# Altium schematic symbol library CMod5_1.SCHLIB: 236 symbols (part 3 of 5)
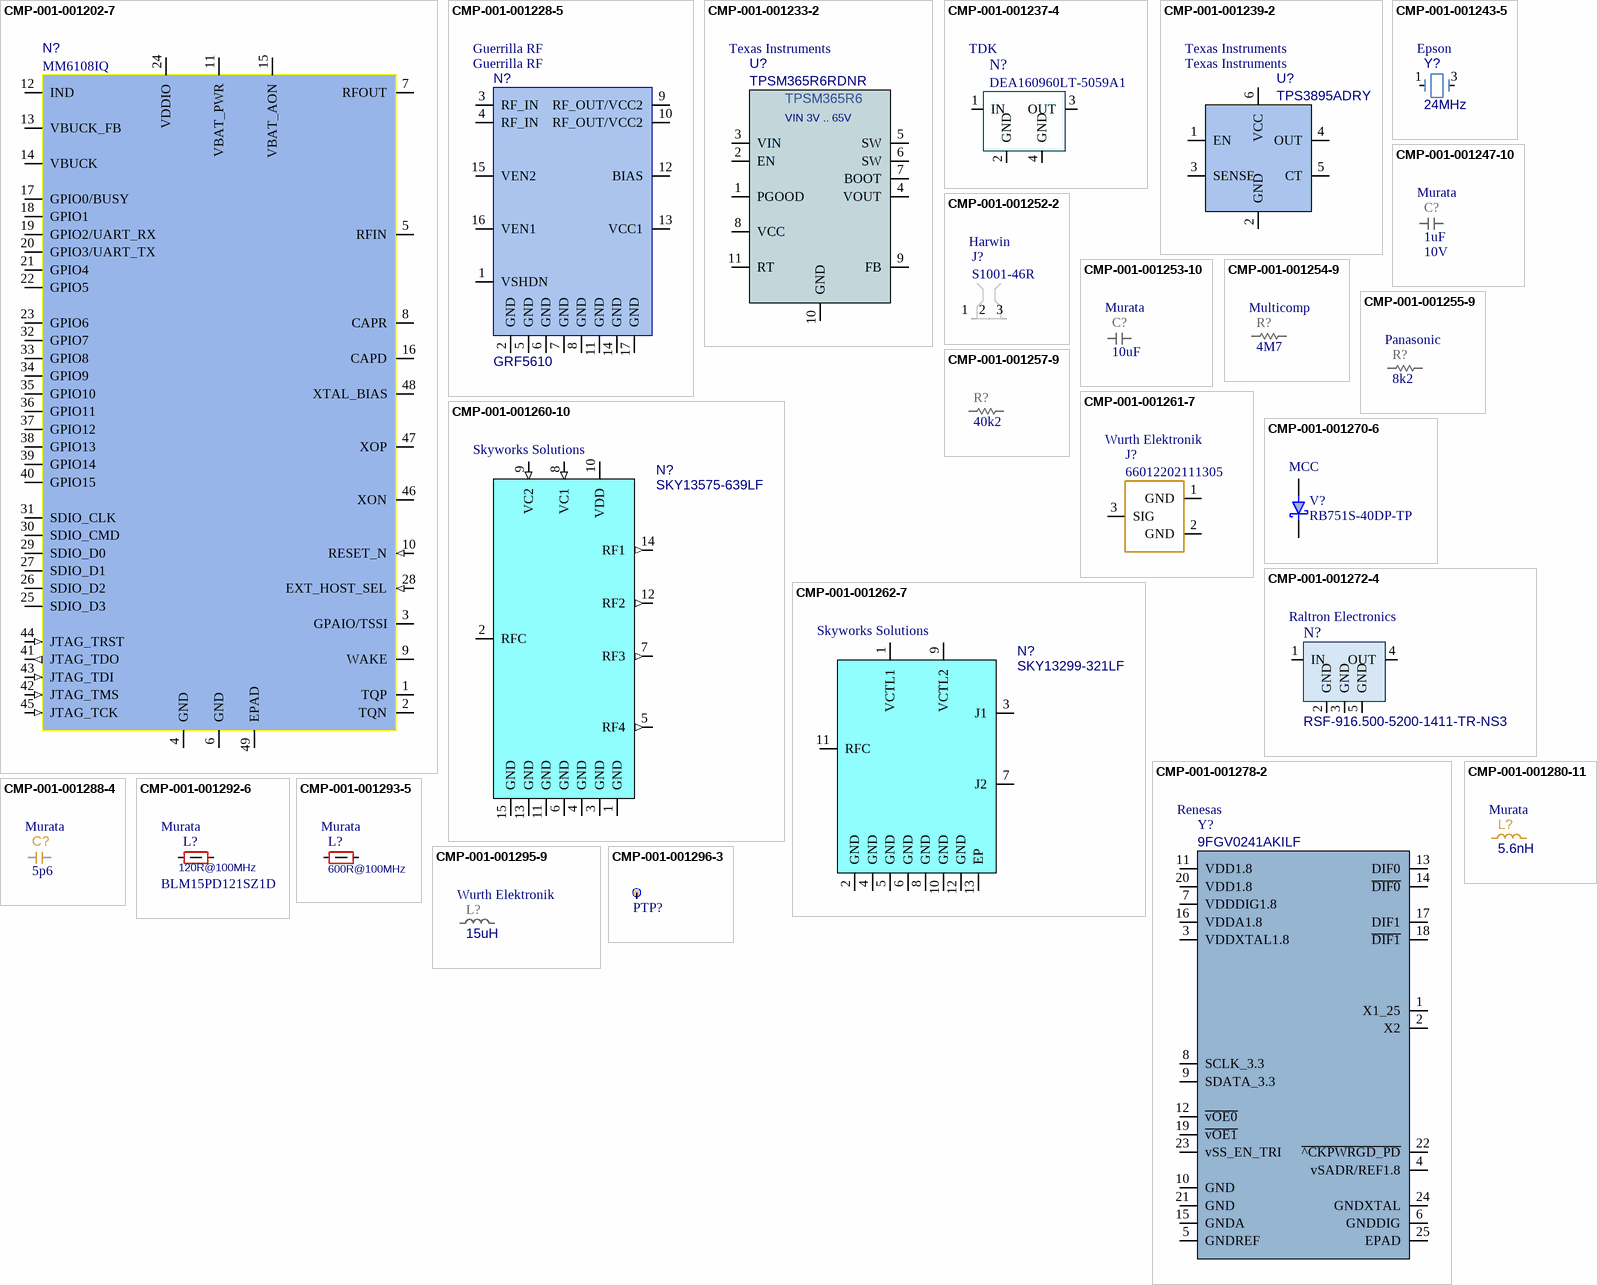
[diagram p14: symbols CMP-001-001202-7 to CMP-001-001296-3]

## CMP-001-001247-10
designator C?, comment value 1uF  Voltage: 10V  Manufacturer: Murata  (hidden comment: CAP_0402_1uF_10V_X7R)
CAP; Part Number: GRM155Z71A105KE01J; Temperature characteristics: X7R; Tolerance: +/-10%; Sort order: 304; Alternative component: Allowed; System: RLC; Package: 0402; Operating temperature range: -55 ... +125 °C; ComponentLink1Description: 1_Datasheet; ComponentLink2Description: 2_Product page; ComponentLink3Description: 3_X-information; ComponentLink4Description: 4_X-information; Creation date: 20240404; ECCN: EAR99; RoHS: RoHS3; Manufacturer Part Number: GRM155Z71A105KE01J; Component Type: Capacitor
footprint CAP_0402_UN1Q (Chip Capacitor 0402)
pins: 1, 2

## CMP-001-001252-2
designator J?, comment S1001-46R  Manufacturer: Harwin
EMC Shielding Clip; Sort order: 101; System: EMECH; Part Number: S1001-46R; Package: Clip; ComponentLink1Description: 1_Datasheet; ComponentLink1URL: https://cdn.harwin.com/pdfs/S1001-46R.pdf; Dimensions WxLxH: 0.75x4.5x0.9; ComponentLink2Description: 2_Product page; ComponentLink2URL: https://www.harwin.com/products/S1001-46R/; ComponentLink3Description: 3_X-information; ComponentLink4Description: 4_X-information; Creation Date: 20240502; Design Item ID: EMC_Shield_Clip_S1001-46R; Manufacturer Part Number: S1001-46R; Component Type: Shield
footprint Shield_Clip_S1001-46R_Harwin (EMC Shielding Clip)
pins: 1, 2, 3

## CMP-001-001253-10
designator C?, comment value 10uF  Manufacturer: Murata  (hidden comment: CAP_0603_10u_10V_X7R)
CAP; Part Number: GRM188Z71A106KA73D; Temperature characteristics: X7R; Voltage: 10V; Tolerance: +/-10%; Sort order: 306; Alternative component: Allowed; System: RLC; Package: 0603; Operating temperature range: -55 ... +125°C; ComponentLink1Description: 1_Datasheet; ComponentLink2Description: 2_Product page; ComponentLink3Description: 3_X-information; ComponentLink4Description: 4_X-information; Creation date: 20240404; ECCN: EAR99; RoHS: RoHS3; Manufacturer Part Number: GRM188Z71A106KA73D; Component Type: Capacitor
footprint CAP_0603_UN1Q (Chip Capacitor 0603)
pins: 1, 2

## CMP-001-001254-9
designator R?, comment value 4M7  Manufacturer: Multicomp  (hidden comment: RES_0201_4M7)
RES; Part Number: MCRE000254; Manufacturer: MULTICOMP PRO; Tolerance: 1%; Power Rating: 1/20W; Sort order: 322; Alternative component: Allowed; System: RLC; Package: 0201; ClassName: SMALL; ComponentLink1Description: 1_Datasheet; ComponentLink2Description: 2_Product page; ComponentLink3Description: 3_X-information; ComponentLink4Description: 4_X-information; Creation date: 20240404; Manufacturer Part Number: MCRE000254; Component Type: Resistor
footprint RES_0201_UN1Q (Chip Resistor, 0.6x0.3mm)
pins: 1, 2

## CMP-001-001255-9
designator R?, comment value 8k2  Manufacturer: Panasonic  (hidden comment: RES_0201_8k2)
RES; Part Number: ERJ1GNF8201C; Manufacturer: Panasonic Electronic Components; Tolerance: 1%; Power Rating: 1/20W; Sort order: 322; Alternative component: Allowed; System: RLC; Package: 0201; ClassName: SMALL; ComponentLink1Description: 1_Datasheet; ComponentLink2Description: 2_Product page; ComponentLink3Description: 3_X-information; ComponentLink4Description: 4_X-information; Creation date: 20240404; Manufacturer Part Number: ERJ1GNF8201C; Component Type: Resistor
footprint RES_0201_UN1Q (Chip Resistor, 0.6x0.3mm)
pins: 1, 2

## CMP-001-001257-9
designator R?, comment value 40k2  (hidden comment: RES_0201_40k2)
RES; Part Number: RC0201FR-0740K2L; Manufacturer: YAGEO; Power Rating: 1/20W; Sort order: 322; Tolerance: 1%; Alternative component: Allowed; System: RLC; Package: 0201; Creation date: 20240404; ComponentLink3Description: 3_X-information; ClassName: SMALL; ComponentLink1Description: 1_Datasheet; ComponentLink2Description: 2_Product page; ComponentLink4Description: 4_X-information; Component Type: Resistor
footprint RES_0201_UN1Q (Chip Resistor, 0.6x0.3mm)
pins: 1, 2

## CMP-001-001260-10
designator N?, comment Manufacturer: Skyworks Solutions  (hidden comment: SKY13575-639LF)
Dual-Band Matched SP4T Wi-Fi Switch; Manufacturer: Skyworks; Sort order: 711; System: RF; Part Number: SKY13575-639LF; ComponentLink1URL: https://www.skyworksinc.com/-/media/SkyWorks/Documents/Products/2201-2300/SKY13575_639LF_203270D.pdf; ClassName: BIG; ComponentLink4Description: 4_X-information; ComponentLink2URL: https://www.skyworksinc.com/en/Products/switches/SKY13575-639LF; Dimensions WxLxH: 1.6 x 1.6 x 0.5; Operating temperature range: -40C ... +90C; ECCN: 5A991.g; Creation Date: 20240626; ComponentLink2Description: 2_Product page; Package: QFN14; ComponentLink3Description: 3_X-information; ComponentLink1Description: 1_Datasheet; Manufacturer Part Number: SKY13575-639LF; Component Type: RF IC
footprint SKY13575-639LF-Footprint (QFN14 SKYWORKS)
pins: 1 GND (power), 2 RFC, 3 GND (power), 4 GND (power), 5 RF4 (out), 6 GND (power), 7 RF3 (out), 8 VC1 (in), 9 VC2 (in), 10 VDD (power), 11 GND (power), 12 RF2 (out), 13 GND (power), 14 RF1 (out), 15 GND (power)

## CMP-001-001261-7
designator J?, comment Part Number: 66012202111305  Manufacturer: Wurth Elektronik  (hidden comment: MMCX_WR_66012202111305_Shaved)
WR-MMCX Connector, SMT, Card edge; Sort order: 111; HasBeenBuilt: False; ComponentLink4Description: 4_X-information; ComponentLink2Description: 2_Product page; Design Item ID: MMCX_WR_66012202111305_Shaved; ComponentLink1Description: 1_Datasheet; ClassName: BIG; System: Connector; ComponentLink1URL: https://www.we-online.com/en/components/products/WR-MMCX_66012202111305?sq=66012202111305#66012202111305; Source: UUDET_KOMPONENTIT.SchLib; ComponentLink3Description: 3_X-information; Creation date: 20240626; Manufacturer Part Number: 66012202111305; Component Type: Connector
footprint MMCX_WR_66012202111305_Shaved (MMCX PCB End Launch Jack)
pins: 1 GND (power), 2 GND (power), 3 SIG

## CMP-001-001262-7
designator N?, comment Manufacturer: Skyworks Solutions  (hidden comment: SKY13299-321LF)
20 MHz-5 GHz, 7 W SPDT Switch; Manufacturer: Skyworks; System: RF; Sort order: 711; ComponentLink2URL: https://www.skyworksinc.com/en/Products/switches/SKY13299-321LF; Operating temperature range: -40C ... +85C; ComponentLink1URL: https://www.skyworksinc.com/-/media/SkyWorks/Documents/Products/101-200/SKY13299_321LF_200621J.pdf; ComponentLink4Description: 4_X-information; ComponentLink3Description: 3_X-information; Package: QFN12L; ComponentLink2Description: 2_Product page; ComponentLink1Description: 1_Datasheet; Part Number: SKY13299-321LF; Creation Date: 20260626; Dimensions WxLxH: 3 x 3 x 0.8; ClassName: BIG; Manufacturer Part Number: SKY13299-321LF; Component Type: RF IC
footprint SKY13299-321LF-Footprint (QFN12, 3 x 3 mm Skyworks)
pins: 1 VCTL1, 2 GND, 3 J1, 4 GND, 5 GND, 6 GND, 7 J2, 8 GND, 9 VCTL2, 10 GND, 11 RFC, 12 GND, 13 EP

## CMP-001-001270-6
designator V?, comment Manufacturer: MCC  (hidden comment: RB751S-40DP-TP)
Schottky diode 30mA 40V; Manufacturer: Micro Commercial Components MCC; Sort order: 421; Value: 1mA@370mV; System: Discrete; Package: 0201; Part Number: RB751S-40DP-TP; Operating temperature range: -55...125C; ComponentLink1Description: 1_Datasheet; ComponentLink1URL: https://www.mccsemi.com/pdf/Products/RB751S-40DP(0201).pdf; Dimensions WxLxH: 0.67x0.37x0.34; ComponentLink2Description: 2_Product page; ComponentLink3Description: 3_X-information; ComponentLink4Description: 4_X-information; Creation date: 20240704; ClassName: SMALL; Manufacturer Part Number: RB751S-40DP-TP; Component Type: Diode
footprint Schottky_0201_MCC (Schottkydiode, 0201, Micro Commercial Components)
pins: 1 CATHODE, 2 ANODE

## CMP-001-001272-4
designator N?, comment Manufacturer: Raltron Electronics  (hidden comment: RSF-916.500-5200-1411-TR-NS3)
916.5 MHz SAW FILTER, IL 2.8; Manufacturer: RALTRON; System: RF; Sort order: 701; Part Number: RSF-916.500-5200-1411-TR-NS3; ComponentLink2URL: https://www.raltron.com/saw-filters-by-frequency/?3186_device=laptop&3186_paged=4; Dimensions WxLxH: 1.4 x 1.1 x  0.6mm; ComponentLink2Description: 2_Product page; ComponentLink1Description: 1_Datasheet; ComponentLink4Description: 4_X-information; ComponentLink3Description: 3_X-information; Package: 5-SMD; ComponentLink1URL: https://www.raltron.com/webproducts/specs/SAW_FILTER/RSF-916.500-5200-1411-TR-NS3.pdf; Operating temperature range: -40 ... +95C; Creation date: 20240711; Manufacturer Part Number: RSF-916.500-5200-1411-TR-NS3; Component Type: RF Discrete
footprint RSF-916.500-5200-1411-TR-NS3
pins: 1 IN "50 ohm input", 2 GND, 3 GND, 4 OUT "50 ohm output", 5 GND

## CMP-001-001278-2
designator Y?, comment Manufacturer: Renesas  (hidden comment: 9FGV0241AKILF)
PCIe Clock Generator, 2-output PCIE GEN 1–4 CLOCK GENERATOR; Manufacturer: Renesas Electronics Corporation; Sort order: 455; System: IC; ECCN: EAR99; ComponentLink3Description: 3_X-information; ComponentLink4Description: 4_X-information; Operating temperature range: -40 .... +85 °C; ComponentLink1URL: https://www.renesas.com/us/en/document/dst/9fgv0241-datasheet; Creation date: 20240816; Part Number: 9FGV0241AKILF; Dimensions WxLxH: 4.0x4.0x0.9mm; ComponentLink1Description: 1_Datasheet; Design Item ID: 9FGV0241AKILF; Package: VFQFPN-24; ComponentLink2Description: 2_Product page; ClassName: BIG; Manufacturer Part Number: 9FGV0241AKILF; Component Type: Timing
footprint VFQFPN-24_9FGV0241AKLF (VFQFPN-24)
pins: 1 X1_25, 2 X2, 3 VDDXTAL1.8, 4 vSADR/REF1.8, 5 GNDREF, 6 GNDDIG, 7 VDDDIG1.8, 8 SCLK_3.3, 9 SDATA_3.3, 10 GND, 11 VDD1.8, 12 ~{vOE0}, 13 DIF0, 14 ~{DIF0}, 15 GNDA, 16 VDDA1.8, 17 DIF1, 18 ~{DIF1}, 19 ~{vOE1}, 20 VDD1.8, 21 GND, 22 ~{^CKPWRGD_PD}, 23 vSS_EN_TRI, 24 GNDXTAL, 25 EPAD

## CMP-001-001280-11
designator L?, comment value 5.6nH  Manufacturer: Murata  (hidden comment: IND_0402_5n6_RF_MATCHING)
IND_RF_MATCHING, WIREWOUND; Part Number: LQW15AN5N6B8Z#; Manufacturer Part Number: LQW15AN5N6B8ZD; Tolerance: +/- 5%; HasBeenBuilt: TBD; Sort order: 206; System: RLC; Remark: RF matching, use part number; ComponentLink2Description: 2_Product page; ComponentLink1Description: 1_Datasheet; Operating temperature range: -55 ... +125C; Creation date: 20240318; Source: UUDET_KOMPONENTIT.SchLib; ComponentLink1URL: https://www.mouser.fi/datasheet/2/281/1/JELF243A_9138-1699493.pdf; ComponentLink3Description: 3_X-information; Package: 0402; ClassName: SMALL; ComponentLink4Description: 4_X-information; RoHS: RoHS3; Component Type: Inductor
footprint IND_0402_UN1Q (Chip Resistor, 1.0x0.5mm)
pins: 1, 2

## CMP-001-001288-4
designator C?, comment value 5p6  Manufacturer: Murata  (hidden comment: CAP_0402_5p6_RF_MATCHING)
CAP_RF_MATCHING; Part Number: GJM1555C1H5R6WB01; Manufacturer Part Number: GJM1555C1H5R6WB01D; Temperature characteristics: C0G; Sort order: 202; HasBeenBuilt: TBD; Tolerance: +/-0.05%; System: RLC; Voltage: 50V; Remark: RF matching, use part number; ComponentLink1Description: 1_Datasheet; Creation date: 20240903; ComponentLink3Description: 3_X-information; Package: 0402; Source: UUDET_KOMPONENTIT.SchLib; ComponentLink1URL: https://www.murata.com/en-us/products/productdetail?partno=GJM1555C1H5R6WB01%23; ClassName: SMALL; ComponentLink2Description: 2_Product page; ComponentLink4Description: 4_X-information; Component Type: Capacitor
footprint CAP_0402_UN1Q (Chip Capacitor 0402)
pins: 1, 2

## CMP-001-001292-6
designator L?, comment value 120R@100MHz  Part Number: BLM15PD121SZ1D  Manufacturer: Murata  (hidden comment: FERRITE_0402_BLM15PD_120R)
FERRITE; HasBeenBuilt: Saluki3X; Sort order: 364; Tolerance: 25%; System: Discrete; Current: 1.3A; Source: Discrete_UN1Q.SchLib; Creation date: 20240904; Package: 0402; ComponentLink3Description: 3_X-information; ECCN: EAR99; Operating temperature range: -55 ... +125C; ComponentLink2Description: 2_Product page; ComponentLink2URL: https://www.murata.com/en-global/search/productsearch?cate=cgsubChipFerriBead&partno=BLM15PD121&realtime=1; ComponentLink4Description: 4_X-information; ComponentLink1Description: 1_Datasheet; ComponentLink1URL: https://www.mouser.fi/datasheet/2/281/QNFA9118-1915745.pdf; RoHS: RoHS3; Manufacturer Part Number: BLM15PD121SZ1D; Component Type: Ferrite
footprint IND_0402_UN1Q (Chip Resistor, 1.0x0.5mm)
pins: 1, 2

## CMP-001-001293-5
designator L?, comment value 600R@100MHz  Manufacturer: Murata  (hidden comment: FERRITE_0402_BLM15PX_600R)
FERRITE; Part Number: BLM15PX601SZ1#; Manufacturer Part Number: BLM15PX601SZ1D; System: Discrete; Tolerance: 25%; Sort order: 364; HasBeenBuilt: TBD; Current: 0.9A; ComponentLink1URL: https://www.mouser.fi/datasheet/2/281/QNFA9118-1915745.pdf; Package: 0402; Creation date: 20240904; ComponentLink2Description: 2_Product page; Source: Discrete_UN1Q.SchLib; ComponentLink4Description: 4_X-information; ComponentLink1Description: 1_Datasheet; ComponentLink3Description: 3_X-information; Operating temperature range: -55 ... +125C; Component Type: Ferrite
footprint IND_0402_UN1Q (Chip Resistor, 1.0x0.5mm)
pins: 1, 2

## CMP-001-001295-9
designator L?, comment value 15uH  Manufacturer: Wurth Elektronik  (hidden comment: IND_1008_15uH_Wurth)
15uH 0.47A 820mohm; Manufacturer: Wurth; Part Number: 74404024150; Sort order: 348; System: RLC; HasBeenBuilt: TBD; ComponentLink1Description: 1_Datasheet; ComponentLink3Description: 3_X-information; ComponentLink2Description: 2_Product page; Package: 1008; Dimensions WxLxH: 2.0x2.5x1.2; ComponentLink1URL: https://www.we-online.com/components/products/datasheet/74404024150.pdf; ComponentLink2URL: https://www.digikey.com/en/products/detail/w%C3%BCrth-elektronik/74404024150/4865380; Creation date: 20240904; ComponentLink4Description: 4_X-information; Current: 0.47A; Manufacturer Part Number: 74404024150; Component Type: Inductor
footprint IND_1008_UN1Q_Wurth (Chip Inductor, 1008)
pins: 1, 2

## CMP-001-001296-3
designator PTP?, comment PTP_0.4mm  (value not drawn)  (no BOM)
Production Testpoint 0.4mm. Flying probe. Use 1mm pitch.; Part Number: PTP 0.4mm; ComponentLink4Description: 4_X-information; ComponentLink1Description: 1_Datasheet; Sort order: -; ClassName: SMALL; System: Test Point; HasBeenBuilt: -; Design Item ID: PTP_0.4mm; ComponentLink3Description: 3_X-information; Creation date: 20240909; ComponentLink2Description: 2_Product page; Component Type: Test Point
footprint PTP_0.4mm (ProductionTest Point, Circular, 0.4mm. Flying probe. Use 1mm pitch.)
pins: 1 TP

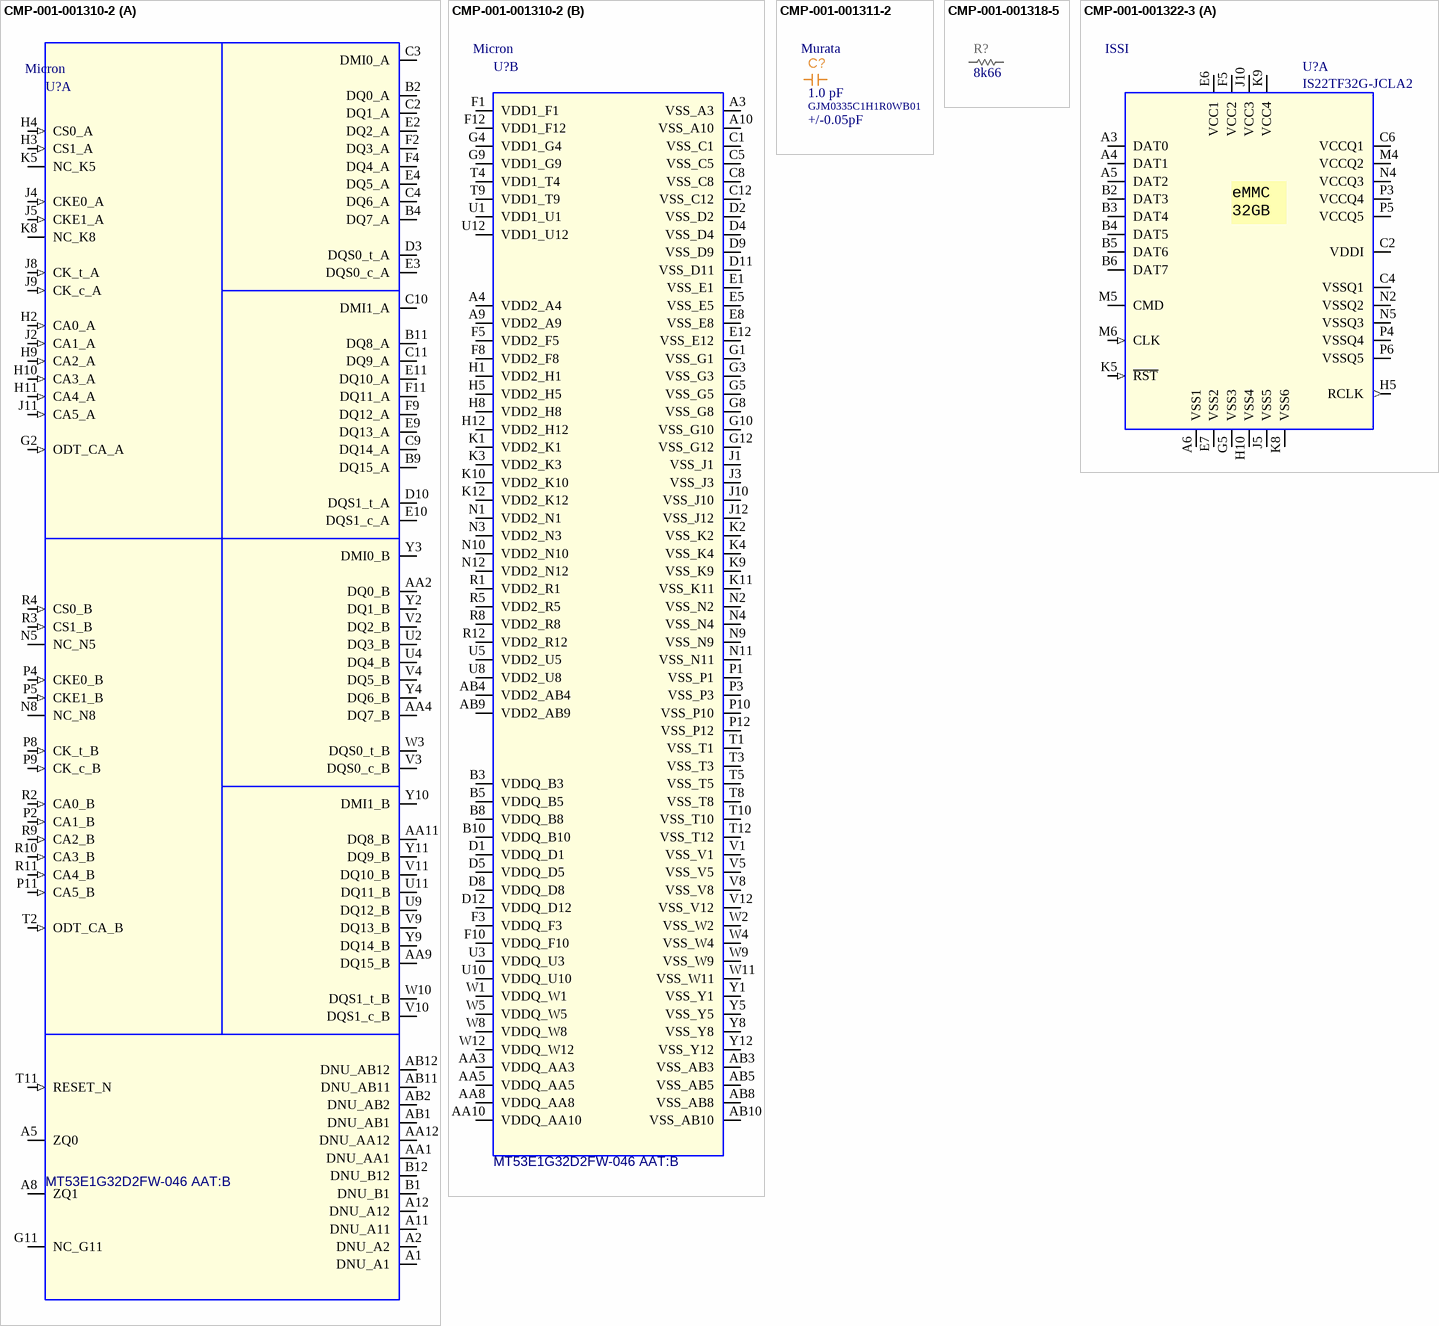
[diagram p7: symbols CMP-001-001310-2 to CMP-001-001322-3]

## CMP-001-001310-2
designator U?, comment Manufacturer: Micron  (hidden comment: MT53E1G32D2FW-046 AAT:B)
MEM LPDDR4 SDRAM 2133MHz 4GB 1Gx32b 1.1V TFBGA200; Sort order: 511; System: IC; ComponentLink1Description: 1_Datasheet; ComponentLink1URL: https://www.micron.com/products/memory/dram-components/lpddr4/part-catalog/part-detail/mt53e1g32d2fw-046-aat-b; ComponentLink2Description: 2_Product page; ComponentLink3Description: 3_X-information; ComponentLink4Description: 4_X-information; Creation Date: 20240919; Dimensions WxLxH: 10x14.5x1.2mm; Operating temperature range: -40 .... +105 °C; Package: TFBGA-200; Part Number: MT53E1G32D2FW-046 AAT:B; ClassName: BIG; Design Item ID: MT53E1G32D2FW-046 AAT:B; Manufacturer Part Number: MT53E1G32D2FW-046 AAT:B; Component Type: Memory
footprint BGA200C65P12X22_1000X1450X114 (BGA200)
part A pins: A1 DNU_A1, A2 DNU_A2, A5 ZQ0, A8 ZQ1, A11 DNU_A11, A12 DNU_A12, AA1 DNU_AA1, AA2 DQ0_B (io), AA4 DQ7_B (io), AA9 DQ15_B (io), AA11 DQ8_B (io), AA12 DNU_AA12, AB1 DNU_AB1, AB2 DNU_AB2, AB11 DNU_AB11, AB12 DNU_AB12, B1 DNU_B1, B2 DQ0_A (io), B4 DQ7_A (io), B9 DQ15_A (io), B11 DQ8_A (io), B12 DNU_B12, C2 DQ1_A (io), C3 DMI0_A (io), C4 DQ6_A (io), C9 DQ14_A (io), C10 DMI1_A (io), C11 DQ9_A (io), D3 DQS0_t_A (io), D10 DQS1_t_A (io), E2 DQ2_A (io), E3 DQS0_c_A (io), E4 DQ5_A (io), E9 DQ13_A (io), E10 DQS1_c_A (io), E11 DQ10_A (io), F2 DQ3_A (io), F4 DQ4_A (io), F9 DQ12_A (io), F11 DQ11_A (io), G2 ODT_CA_A (in), G11 NC_G11, H2 CA0_A (in), H3 CS1_A (in), H4 CS0_A (in), H9 CA2_A (in), H10 CA3_A (in), H11 CA4_A (in), J2 CA1_A (in), J4 CKE0_A (in), J5 CKE1_A (in), J8 CK_t_A (in), J9 CK_c_A (in), J11 CA5_A (in), K5 NC_K5, K8 NC_K8, N5 NC_N5, N8 NC_N8, P2 CA1_B (in), P4 CKE0_B (in), P5 CKE1_B (in), P8 CK_t_B (in), P9 CK_c_B (in), P11 CA5_B (in), R2 CA0_B (in), R3 CS1_B (in), R4 CS0_B (in), R9 CA2_B (in), R10 CA3_B (in), R11 CA4_B (in), T2 ODT_CA_B (in), T11 RESET_N (in), U2 DQ3_B (io), U4 DQ4_B (io), U9 DQ12_B (io), U11 DQ11_B (io), V2 DQ2_B (io), V3 DQS0_c_B (io), V4 DQ5_B (io), V9 DQ13_B (io), V10 DQS1_c_B (io), V11 DQ10_B (io), W3 DQS0_t_B (io), W10 DQS1_t_B (io), Y2 DQ1_B (io), Y3 DMI0_B (io), Y4 DQ6_B (io), Y9 DQ14_B (io), Y10 DMI1_B (io), Y11 DQ9_B (io)
part B pins: A3 VSS_A3 (power), A4 VDD2_A4 (power), A9 VDD2_A9 (power), A10 VSS_A10 (power), AA3 VDDQ_AA3 (power), AA5 VDDQ_AA5 (power), AA8 VDDQ_AA8 (power), AA10 VDDQ_AA10 (power), AB3 VSS_AB3 (power), AB4 VDD2_AB4 (power), AB5 VSS_AB5 (power), AB8 VSS_AB8 (power), AB9 VDD2_AB9 (power), AB10 VSS_AB10 (power), B3 VDDQ_B3 (power), B5 VDDQ_B5 (power), B8 VDDQ_B8 (power), B10 VDDQ_B10 (power), C1 VSS_C1 (power), C5 VSS_C5 (power), C8 VSS_C8 (power), C12 VSS_C12 (power), D1 VDDQ_D1 (power), D2 VSS_D2 (power), D4 VSS_D4 (power), D5 VDDQ_D5 (power), D8 VDDQ_D8 (power), D9 VSS_D9 (power), D11 VSS_D11 (power), D12 VDDQ_D12 (power), E1 VSS_E1 (power), E5 VSS_E5 (power), E8 VSS_E8 (power), E12 VSS_E12 (power), F1 VDD1_F1 (power), F3 VDDQ_F3 (power), F5 VDD2_F5 (power), F8 VDD2_F8 (power), F10 VDDQ_F10 (power), F12 VDD1_F12 (power), G1 VSS_G1 (power), G3 VSS_G3 (power), G4 VDD1_G4 (power), G5 VSS_G5 (power), G8 VSS_G8 (power), G9 VDD1_G9 (power), G10 VSS_G10 (power), G12 VSS_G12 (power), H1 VDD2_H1 (power), H5 VDD2_H5 (power), H8 VDD2_H8 (power), H12 VDD2_H12 (power), J1 VSS_J1 (power), J3 VSS_J3 (power), J10 VSS_J10 (power), J12 VSS_J12 (power), K1 VDD2_K1 (power), K2 VSS_K2 (power), K3 VDD2_K3 (power), K4 VSS_K4 (power), K9 VSS_K9 (power), K10 VDD2_K10 (power), K11 VSS_K11 (power), K12 VDD2_K12 (power), N1 VDD2_N1 (power), N2 VSS_N2 (power), N3 VDD2_N3 (power), N4 VSS_N4 (power), N9 VSS_N9 (power), N10 VDD2_N10 (power), N11 VSS_N11 (power), N12 VDD2_N12 (power), P1 VSS_P1 (power), P3 VSS_P3 (power), P10 VSS_P10 (power), P12 VSS_P12 (power), R1 VDD2_R1 (power), R5 VDD2_R5 (power), R8 VDD2_R8 (power), R12 VDD2_R12 (power), T1 VSS_T1 (power), T3 VSS_T3 (power), T4 VDD1_T4 (power), T5 VSS_T5 (power), T8 VSS_T8 (power), T9 VDD1_T9 (power), T10 VSS_T10 (power), T12 VSS_T12 (power), U1 VDD1_U1 (power), U3 VDDQ_U3 (power), U5 VDD2_U5 (power), U8 VDD2_U8 (power), U10 VDDQ_U10 (power), U12 VDD1_U12 (power), V1 VSS_V1 (power), V5 VSS_V5 (power), V8 VSS_V8 (power), V12 VSS_V12 (power), W1 VDDQ_W1 (power), W2 VSS_W2 (power), W4 VSS_W4 (power), W5 VDDQ_W5 (power), W8 VDDQ_W8 (power), W9 VSS_W9 (power), W11 VSS_W11 (power), W12 VDDQ_W12 (power), Y1 VSS_Y1 (power), Y5 VSS_Y5 (power), Y8 VSS_Y8 (power), Y12 VSS_Y12 (power)

## CMP-001-001311-2
designator C?, comment value 1.0 pF  Part Number: GJM0335C1H1R0WB01  Tolerance: +/-0.05pF  Manufacturer: Murata  (hidden comment: CAP_0201_1p0_GJM_RF_MATCHING)
CAP_RF_MATCHING; Manufacturer Part Number: GJM0335C1H1R0WB01J; HasBeenBuilt: TBD; Sort order: 202; Remark: RF matching, use part number; Temperature characteristics: C0G; System: RLC; Voltage: 50V; ComponentLink3Description: 3_X-information; ComponentLink1URL: https://www.murata.com/en-global/products/productdetail?partno=GJM0335C1H1R0WB01%23; Creation date: 20240917; Source: RLC_UN1Q.SchLib; ECCN: EAR99; ComponentLink1Description: 1_Datasheet; Package: 0201; ComponentLink2Description: 2_Product page; ComponentLink4Description: 4_X-information; Operating temperature range: -55 ... +125C; ClassName: SMALL; RoHS: RoHS 2011/65/EU amended by 2015/863 Compliant; Component Type: Capacitor
footprint CAP_0201_UN1Q (Chip Capacitor 0201)
pins: 1, 2

## CMP-001-001318-5
designator R?, comment value 8k66  (hidden comment: RES_0201_8k66)
RES; Part Number: RC0201FR-078K66L; Manufacturer: Yageo; Tolerance: 1%; Power Rating: 1/20W; Sort order: 322; Alternative component: Allowed; System: RLC; Package: 0201; ComponentLink1Description: 1_Datasheet; ComponentLink2Description: 2_Product page; ComponentLink3Description: 3_X-information; ComponentLink4Description: 4_X-information; Creation date: 20240024; ClassName: SMALL; Component Type: Resistor
footprint RES_0201_UN1Q (Chip Resistor, 0.6x0.3mm)
pins: 1, 2

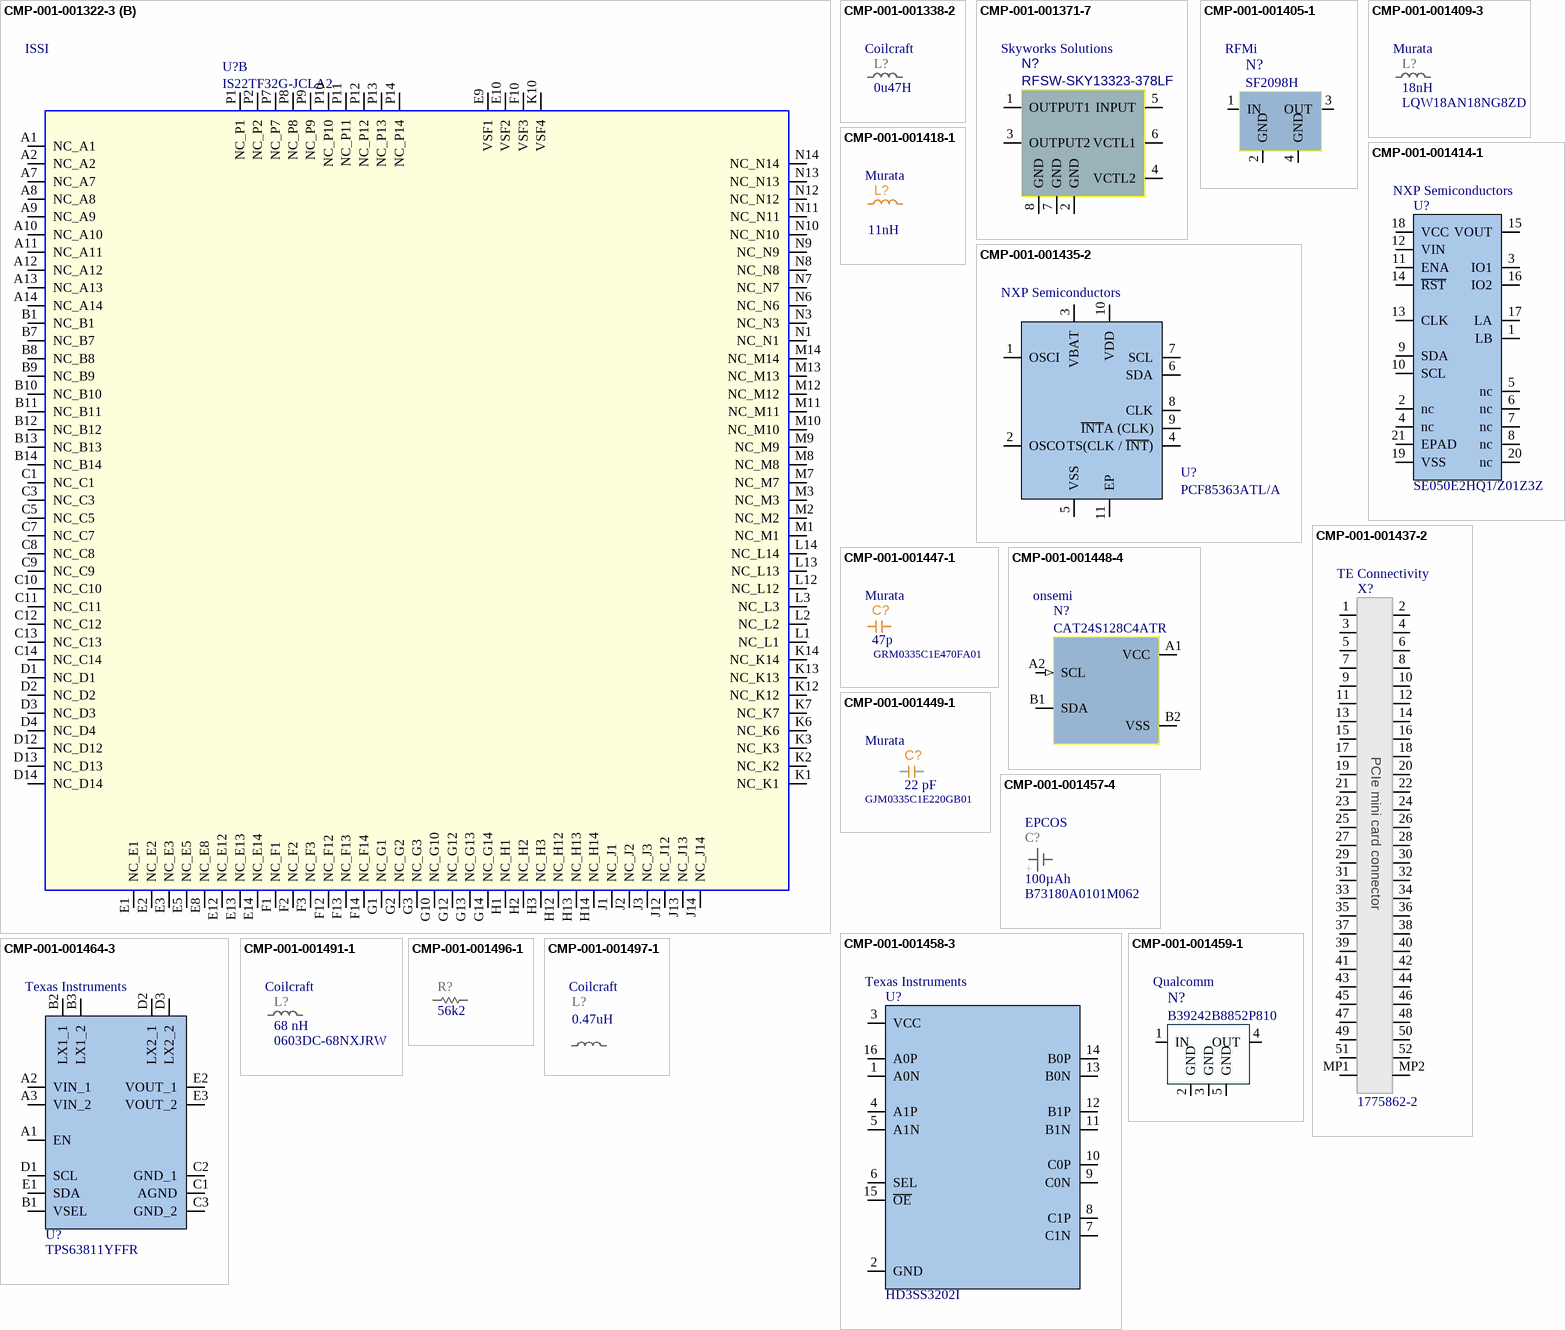
[diagram p8: symbols CMP-001-001322-3 to CMP-001-001497-1]

## CMP-001-001322-3
designator U?, comment Manufacturer: ISSI  (hidden comment: IS22TF32G-JCLA2)
MEM NAND FLASH 32GB eMMC 5.1 HS400 2.7-3.6V, 1.8V VCCQ, FBGA153; Sort order: 511; System: IC; ComponentLink1Description: 1_Datasheet; ComponentLink1URL: https://www.issi.com/WW/pdf/21-22TF16G-32G-64G-128G.pdf; ComponentLink2Description: 2_Product page; ComponentLink3Description: 3_X-information; ComponentLink4Description: 4_X-information; Creation Date: 20240919; Dimensions WxLxH: 11.5 x 13 x 1 mm; Manufacturer: Issi; Operating temperature range: -40 .... +105 °C; Package: TFBGA-153; Part Number: IS22TF32G-JCLA2; Design Item ID: IS22TF32G-JCLA2; Manufacturer Part Number: IS22TF32G-JCLA2; Component Type: Memory
footprint BGA153C50P14X14_1150X1300X100
part A pins: A3 DAT0 (io), A4 DAT1 (io), A5 DAT2 (io), A6 VSS1 (power), B2 DAT3 (io), B3 DAT4 (io), B4 DAT5 (io), B5 DAT6 (io), B6 DAT7 (io), C2 VDDI (power), C4 VSSQ1 (power), C6 VCCQ1 (power), E6 VCC1 (power), E7 VSS2 (power), F5 VCC2 (power), G5 VSS3 (power), H5 RCLK (out), H10 VSS4 (power), J5 VSS5 (power), J10 VCC3 (power), K5 ~{RST} (in), K8 VSS6 (power), K9 VCC4 (power), M4 VCCQ2 (power), M5 CMD (io), M6 CLK (in), N2 VSSQ2 (power), N4 VCCQ3 (power), N5 VSSQ3 (power), P3 VCCQ4 (power), P4 VSSQ4 (power), P5 VCCQ5 (power), P6 VSSQ5 (power)
part B pins: A1 NC_A1, A2 NC_A2, A7 NC_A7, A8 NC_A8, A9 NC_A9, A10 NC_A10, A11 NC_A11, A12 NC_A12, A13 NC_A13, A14 NC_A14, B1 NC_B1, B7 NC_B7, B8 NC_B8, B9 NC_B9, B10 NC_B10, B11 NC_B11, B12 NC_B12, B13 NC_B13, B14 NC_B14, C1 NC_C1, C3 NC_C3, C5 NC_C5, C7 NC_C7, C8 NC_C8, C9 NC_C9, C10 NC_C10, C11 NC_C11, C12 NC_C12, C13 NC_C13, C14 NC_C14, D1 NC_D1, D2 NC_D2, D3 NC_D3, D4 NC_D4, D12 NC_D12, D13 NC_D13, D14 NC_D14, E1 NC_E1, E2 NC_E2, E3 NC_E3, E5 NC_E5, E8 NC_E8, E9 VSF1, E10 VSF2, E12 NC_E12, E13 NC_E13, E14 NC_E14, F1 NC_F1, F2 NC_F2, F3 NC_F3, F10 VSF3, F12 NC_F12, F13 NC_F13, F14 NC_F14, G1 NC_G1, G2 NC_G2, G3 NC_G3, G10 NC_G10, G12 NC_G12, G13 NC_G13, G14 NC_G14, H1 NC_H1, H2 NC_H2, H3 NC_H3, H12 NC_H12, H13 NC_H13, H14 NC_H14, J1 NC_J1, J2 NC_J2, J3 NC_J3, J12 NC_J12, J13 NC_J13, J14 NC_J14, K1 NC_K1, K2 NC_K2, K3 NC_K3, K6 NC_K6, K7 NC_K7, K10 VSF4, K12 NC_K12, K13 NC_K13, K14 NC_K14, L1 NC_L1, L2 NC_L2, L3 NC_L3, L12 NC_L12, L13 NC_L13, L14 NC_L14, M1 NC_M1, M2 NC_M2, M3 NC_M3, M7 NC_M7, M8 NC_M8, M9 NC_M9, M10 NC_M10, M11 NC_M11, M12 NC_M12, M13 NC_M13, M14 NC_M14, N1 NC_N1, N3 NC_N3, N6 NC_N6, N7 NC_N7, N8 NC_N8, N9 NC_N9, N10 NC_N10, N11 NC_N11, N12 NC_N12, N13 NC_N13, N14 NC_N14, P1 NC_P1, P2 NC_P2, P7 NC_P7, P8 NC_P8, P9 NC_P9, P10 NC_P10, P11 NC_P11, P12 NC_P12, P13 NC_P13, P14 NC_P14
part A text: eMMC / 32GB

## CMP-001-001338-2
designator L?, comment value 0u47H  Manufacturer: Coilcraft  (hidden comment: PFL1609-471ME)
Shielded Power Inductors, 0.47uH, 0.76A, 0603; Part Number: PFL1609-471MEW; Tolerance: 20%; HasBeenBuilt: none; Sort order: 346; ComponentLink2Description: 2_Product page; Operating temperature range: -40C...+125C; Creation date: 20241016; ComponentLink1URL: https://www.coilcraft.com/getmedia/2f4cd442-d64d-4413-a518-12fcfd03318d/pfl1609.pdf; Current: 0.76A; ComponentLink2URL: https://www.coilcraft.com/en-us/products/power/shielded-inductors/molded-inductor/pfl/pfl1609/pfl1609-471/?srsltid=AfmBOoox4MHXyd06V8My7xbHq5t_YORcnWOuNKpRl11NXRI1xzm57yHU; ECCN: EAR99; ComponentLink1Description: 1_Datasheet; ComponentLink4Description: 4_X-information; ComponentLink3Description: 3_X-information; Package: 0603; Dimensions WxLxH: 1.07x1.80x0.95mm; Manufacturer Part Number: PFL1609-471MEW; Component Type: Inductor
footprint IND_0603_PFL1609
pins: 1, 2

## CMP-001-001371-7
designator N?, comment RFSW-SKY13323-378LF  Manufacturer: Skyworks Solutions
0.1 to 3.0 GHz GaAs SPDT Switch; Manufacturer: Skyworks; Sort order: 711; System: RF; ComponentLink1URL: https://www.skyworksinc.com/-/media/SkyWorks/Documents/Products/301-400/SKY13323_378LF_201080F.pdf; Part Number: SKY13323-378LF; Dimensions WxLxH: 1.0 x 1.0 x 0.5; ComponentLink3Description: 3_X-information; ComponentLink4Description: 4_X-information; Operating temperature range: -40C ... +85C; Package: MLPD6; ComponentLink2URL: https://www.skyworksinc.com/en/Products/switches/SKY13323-378LF; ComponentLink2Description: 2_Product page; Creation Date: 20241115; ComponentLink1Description: 1_Datasheet; Manufacturer Part Number: SKY13323-378LF; Component Type: RF IC
footprint SKY13323-378LF_MLPD6 (Skyworks MLPD6 package)
pins: 1 OUTPUT1, 2 GND, 3 OUTPUT2, 4 VCTL2, 5 INPUT, 6 VCTL1, 7 GND, 8 GND

## CMP-001-001405-1
designator N?, comment SF2098H  Manufacturer: RFMi
915 MHz SAW Filter, IL 2 dB; Sort order: 701; System: RF; Part Number: SF2098H; ComponentLink2Description: 2_Product page; RoHS: RoHS1; ComponentLink4Description: 4_X-information; ComponentLink3Description: 3_X-information; ComponentLink1URL: https://www.rfmi.co/pdf/datasheet/SF2098H.pdf; Package: SM2016-4; Operating temperature range: -40 to +100 °C; Creation date: 20241217; ComponentLink1Description: 1_Datasheet; Dimensions WxLxH: 1.6 x 2 x 0.75 mm; Manufacturer Part Number: SF2098H; Component Type: RF Discrete
footprint SF2098H_SM2016-4 (SM2016-4, 1.6 x 2 4 pin)
pins: 1 IN "50 ohm terminal", 2 GND, 3 OUT "50 ohm terminal", 4 GND

## CMP-001-001409-3
designator L?, comment value 18nH  Part Number: LQW18AN18NG8ZD  Manufacturer: Murata  (hidden comment: IND_0603_18nH_LQW)
IND High Q Wirewound, 1.4A; Tolerance: 2%; System: RLC; Sort order: 346; Package: 0603; ComponentLink2Description: 2_Product page; Dimensions WxLxH: 1.09 x 1.75 x 1.00; ComponentLink3Description: 3_X-information; Creation date: 20250103; ComponentLink1Description: 1_Datasheet; ComponentLink1URL: https://www.mouser.fi/datasheet/2/281/JELF243A_9133-1518463.pdf; Operating temperature range: -55℃ to 125℃; ComponentLink4Description: 4_X-information; Current: 1.4 A; Manufacturer Part Number: LQW18AN18NG8ZD; Component Type: Inductor
footprint IND_0603_UN1Q_LQW (Chip Inductor, 1.65x0.99mm (1.75x1.09 max))
pins: 1, 2

## CMP-001-001414-1
designator U?, comment Manufacturer: NXP Semiconductors  (hidden comment: SE050E2HQ1/Z01Z3Z)
TPM; Manufacturer: NXP USA Inc.; Sort order: 501; System: IC; ComponentLink1Description: 1_Datasheet; ComponentLink1URL: https://www.nxp.com/part/SE050E2HQ1; ComponentLink2Description: 2_Product page; ComponentLink2URL: https://www.nxp.com/products/security-and-authentication/authentication/edgelock-se050-plug-trust-secure-element-family-enhanced-iot-security-with-high-flexibility:SE050; ComponentLink3Description: 3_X-information; ComponentLink3URL: https://www.nxp.com/docs/en/package-information/SOT1969-1.pdf; Creation date: 20250528; Dimensions WxLxH: 3 x 3 x  0.33mm; Operating temperature range: -40°C .... +105°C; Package: HX2QFN20; Part Number: SE050E2HQ1/Z01Z3Z; ComponentLink4Description: 4_X-information; ComponentLink4URL: https://www.nxp.com/products/SE050; Manufacturer Part Number: SE050E2HQ1/Z01Z3Z; Component Type: Integrated Circuit
footprint HX2QFN20_NXP (HX2QFN20 NXP)
pins: 1 LB, 2 nc, 3 IO1, 4 nc, 5 nc, 6 nc (power), 7 nc, 8 nc, 9 SDA, 10 SCL, 11 ENA, 12 VIN, 13 CLK, 14 ~{RST} (power), 15 VOUT (power), 16 IO2, 17 LA (power), 18 VCC (power), 19 VSS (power), 20 nc (power), 21 EPAD (power)

## CMP-001-001418-1
designator L?, comment value 11nH  Manufacturer: Murata  (hidden comment: IND_0201_LQW_11n_RF_MATCHING)
IND_RF_MATCHING; Part Number: LQW03AW11NJ00; Manufacturer Part Number: LQW03AW11NJ00D; Remark: RF matching, use part number; Sort order: 206; HasBeenBuilt: TBD; System: RLC; Tolerance: +/- 5%; ECCN: EAR99; Creation date: 20250530; ComponentLink2Description: 2_Product page; RoHS: RoHS3; ComponentLink4Description: 4_X-information; Package: 0201; ClassName: SMALL; ComponentLink1URL: https://www.murata.com/en-eu/products/productdetail?partno=LQW03AW11NJ00%23; Operating temperature range: -55°C ~ 125°C; ComponentLink3Description: 3_X-information; ComponentLink1Description: 1_Datasheet; Component Type: Inductor
footprint IND_0201_UN1Q (Chip Resistor, 0.6x0.3mm, IPC High Density)
pins: 1, 2

## CMP-001-001435-2
designator U?, comment Manufacturer: NXP Semiconductors  (hidden comment: PCF85363ATL/A)
Tiny Real-Time Clock, I2C; Manufacturer: NXP; Manufacturer Part Number: PCF85363ATL/AX; Sort order: 451; System: IC; ClassName: BIG; ComponentLink1Description: 1_Datasheet; ComponentLink1URL: https://www.nxp.com/docs/en/data-sheet/PCF85363A.pdf; ComponentLink2Description: 2_Product page; ComponentLink2URL: https://www.nxp.com/products/analog-and-mixed-signal/real-time-clocks/tiny-real-time-clock-calendar-with-64-b-ram-alarm-function-battery-switch-over-time-stamp-input-and-ic-bus:PCF85363A; ComponentLink3Description: 3_X-information; ComponentLink4Description: 4_X-information; Creation date: 20210901; Dimensions WxLxH: 2.6x2.6x0.5; Operating temperature range: -40 .... +85 °C; Package: DFN2626-10; Part Number: PCF85363ATL/A; ECCN: EAR99; Design Item ID: PCF85363ATL/A; RoHS: RoHS 2; Component Type: Timing
footprint DFN2626-10_NXP (DFN2626 10 pin pitch 0.5)
pins: 1 OSCI, 2 OSCO, 3 VBAT (power), 4 TS(CLK / ~{INT}), 5 VSS, 6 SDA, 7 SCL, 8 CLK, 9 ~{INT}A (CLK), 10 VDD, 11 EP

## CMP-001-001437-2
designator X?, comment Part Number: 1775862-2  Manufacturer: TE Connectivity  (hidden comment: 1775862-2_TE)
TE PCIe connector, 52 pins, height 4mm; Sort order: 111; ClassName: BIG; ComponentLink1Description: 1_Datasheet; ComponentLink1URL: https://www.te.com/commerce/DocumentDelivery/DDEController?Action=srchrtrv&DocNm=8-1773459-7_EXPRESS_MINI_CARD_QRG&DocType=Data%20Sheet&DocLang=English&DocFormat=pdf&PartCntxt=1775862-2; ComponentLink2Description: 2_Product page; ComponentLink2URL: https://www.te.com/en/product-1775862-2.html; ComponentLink3Description: 3_X-information; ComponentLink4Description: 4_X-information; Creation date: 20250617; Dimensions WxLxH: 5.56 x 29.9 x 5.2mm; Manufacturer: TE; Operating temperature range: -55 ... +85 C; System: Connector; ECCN: EAR99; RoHS: RoHS 2; Manufacturer Part Number: 1775862-2; Component Type: Interface Connector
footprint mPCIe_TE_1775862-2 (mPCie 5.2H Type I G/F)
pins: 1, 2, 3, 4, 5, 6, 7, 8, 9, 10, 11, 12, 13, 14, 15, 16, 17, 18, 19, 20, 21, 22, 23, 24, 25, 26, 27, 28, 29, 30, 31, 32, 33, 34, 35, 36, 37, 38, 39, 40, 41, 42, 43, 44, 45, 46, 47, 48, 49, 50, 51, 52, MP1, MP2
text: PCIe mini card connector

## CMP-001-001447-1
designator C?, comment value 47p  Part Number: GRM0335C1E470FA01  Manufacturer: Murata  (hidden comment: CAP_0201_47p_RF_MATCHING)
CAP_RF_MATCHING; Manufacturer Part Number: GRM0335C1E470FA01D; Sort order: 202; Tolerance: +/-1%; Temperature characteristics: C0G; System: RLC; HasBeenBuilt: False; Voltage: 25V; Remark: RF matching, use part number; ComponentLink1URL: https://www.murata.com/en-eu/products/productdetail?partno=GRM0335C1E470FA01%23; Operating temperature range: -55 ... +125C; ComponentLink4Description: 4_X-information; Creation date: 20250624; Package: 0201; ComponentLink2Description: 2_Product page; ComponentLink3Description: 3_X-information; ECCN: EAR99; ComponentLink1Description: 1_Datasheet; ClassName: SMALL; RoHS: RoHS 3; Component Type: Capacitor
footprint CAP_0201_UN1Q (Chip Capacitor 0201)
pins: 1, 2

## CMP-001-001448-4
designator N?, comment Part Number: CAT24S128C4ATR  Manufacturer: onsemi  (hidden comment: EEPROM_CAT24S128C4ATR)
EEPROM, I2C, 128kb, 4pin, BGA, 0.4 & 0.5mm pitch, WLCSP-4; Sort order: 511; System: IC; ClassName: BIG; ComponentLink1Description: 1_Datasheet; ComponentLink1URL: https://www.onsemi.com/download/data-sheet/pdf/cat24s128-d.pdf; ComponentLink2Description: 2_Product page; ComponentLink2URL: https://www.onsemi.com/products/timing-logic-memory/memory/eeprom-memory/cat24s128; ComponentLink3Description: 3_X-information; ComponentLink4Description: 4_X-information; Creation Date: 20250625; Manufacturer: Onsemi; Dimensions WxLxH: 0.87 x 0.87 x 0.35 mm; Operating temperature range: -40 .... +85 °C; Package: WLCSP-4; ECCN: EAR99; Design Item ID: EEPROM_CAT24S128C4ATR; RoHS: RoHS 3; Manufacturer Part Number: CAT24S128C4ATR; Component Type: Memory
footprint BGA4P40_ONSEMI_87X87X35 (Case 567KV)
pins: A1 VCC (power), A2 SCL (in), B1 SDA (io), B2 VSS (power)

## CMP-001-001449-1
designator C?, comment value 22 pF  Part Number: GJM0335C1E220GB01  Manufacturer: Murata  (hidden comment: CAP_0201_22p_GJM_RF_MATCHING)
CAP_RF_MATCHING; Manufacturer Part Number: GJM0335C1E220GB01D; Voltage: 25V; Tolerance: 2%; HasBeenBuilt: TBD; Sort order: 202; System: RLC; Remark: RF matching, use part number; Temperature characteristics: C0G; ComponentLink2Description: 2_Product page; ComponentLink1Description: 1_Datasheet; Operating temperature range: -55 ... +125C; ComponentLink4Description: 4_X-information; Creation date: 20250624; Source: RLC_UN1Q.SchLib; ComponentLink1URL: https://www.murata.com/en-eu/products/productdetail?partno=GJM0335C1E220GB01%23; ECCN: EAR99; ComponentLink3Description: 3_X-information; Package: 0201; ClassName: SMALL; RoHS: RoHS 3; Component Type: Capacitor
footprint CAP_0201_UN1Q (Chip Capacitor 0201)
pins: 1, 2

## CMP-001-001457-4
designator C?, comment value 100µAh  Part Number: B73180A0101M062  Manufacturer: EPCOS  (hidden comment: BAT_1812_100uAh)
EIA1812 1.5 V Lithium Ceramic Battery Rechargeable 100µAh; Manufacturer: TDK; Voltage: 1.6V; Sort order: 304; System: RLC; HasBeenBuilt: no; ComponentLink4URL: https://www.tdk-electronics.tdk.com/download/2532510/3794c3c09a5c15b9befc89bba989f38c/06-dl-application-note.pdf; RoHS: RoHS3; ComponentLink2Description: 2_Product page; ComponentLink1Description: 1_Datasheet; ECCN: EAR99; ComponentLink1URL: https://product.tdk.com/system/files/dam/doc/product/solid-state-batt/solid-state-batt/smd-assbs/ceracharge_bct1812m101ag.pdf; Dimensions WxLxH: 4.6 x 3.2 x 1.3 mm; ComponentLink2URL: https://product.tdk.com/en/search/solid-state-batt/solid-state-batt/smd-assbs/info?part_no=B73180A0101M062; ComponentLink4Description: 4_Application note; ComponentLink3URL: https://product.tdk.com/en/products/solid-state-batt/solid-state-batt/smd-assbs/index.html; Package: 2917; ComponentLink3Description: 3_Product page; Creation date: 20250630; Operating temperature range: -20C ... +80C; Manufacturer Part Number: B73180A0101M062; Component Type: Capacitor
footprint BAT_EIA1812_TDK (BATT LITH CER 1.5V EIA1812, height 1.5mm)
pins: 1 "Anode", 2 "Cathode"

## CMP-001-001458-3
designator U?, comment Manufacturer: Texas Instruments  (hidden comment: HD3SS3202I)
USB3.1 Two-Channel Differential 2:1/1:2 Mux/Demux, USB3.1, PCIe Gen3; Manufacturer: TI; Manufacturer Part Number: HD3SS3202IRSVT; System: IC; Sort order: 501; ComponentLink3Description: 3_EVA kit; ComponentLink1Description: 1_Datasheet; Part Number: HD3SS3202I; Dimensions WxLxH: 2.6 x 1.8 x 0.55mm; ComponentLink2Description: 2_Product page; Creation date: 20250709; Package: UQFN-16; ComponentLink2URL: https://www.ti.com/product/HD3SS3202?keyMatch=HD3SS3202&tisearch=universal_search&usecase=GPN-ALT; ComponentLink1URL: https://www.ti.com/lit/ds/symlink/hd3ss3202.pdf?ts=1751988239552&ref_url=https%253A%252F%252Fwww.ti.com%252Fproduct%252FHD3SS3202; Operating temperature range: -40C ... +85C; ComponentLink4Description: 4_X-information; Component Type: Logic
footprint UQFN-16_HD3SS3202I (UQFN-16)
pins: 1 A0N, 2 GND, 3 VCC, 4 A1P, 5 A1N, 6 SEL, 7 C1N, 8 C1P, 9 C0N, 10 C0P, 11 B1N, 12 B1P, 13 B0N, 14 B0P, 15 ~{OE}, 16 A0P

## CMP-001-001459-1
designator N?, comment Part Number: B39242B8852P810  Manufacturer: Qualcomm  (hidden comment: BAW_BT_WLAN_B8852)
2.442GHz Frequency Bluetooth, WLAN RF BAW; Manufacturer: RF360; Sort order: 701; HasBeenBuilt: False; Operating temperature range: -40 ... +95C; Package: 5-SMD; Dimensions WxLxH: 1.0 x 1.2 x 0.45mm; ComponentLink1Description: 1_Datasheet; ComponentLink1URL: https://mm.digikey.com/Volume0/opasdata/d220001/medias/docus/2354/B39242B8852P810.pdf; ComponentLink2Description: 2_Product page; Creation date: 20250704; System: RF; ECCN: EAR99; Design Item ID: BAW_BT_WLAN_B8852; Source: RF_Components_UN1Q.SchLib; ComponentLink3Description: 3_X-information; ComponentLink4Description: 4_X-information; RoHS: RoHS 3; Manufacturer Part Number: B39242B8852P810; Component Type: RF Discrete
footprint BAW_RF360_11x10x045 (Footprint for 1.2 x 1.1 x 0.45mm RF BAW B39242B8852P810)
pins: 1 IN "50 ohm input", 2 GND, 3 GND, 4 OUT "50 ohm output", 5 GND

## CMP-001-001464-3
designator U?, comment Manufacturer: Texas Instruments  (hidden comment: TPS63811YFFR)
Buck-Boost Converter with I2C, Vin=2.2 - 5.5V, Vout=1V8 - 5V2; Sort order: 453; System: IC; Part Number: TPS63811YFFR; Creation date: 20250711; Operating temperature range: -40 .... +85 °C; ComponentLink2Description: 2_Product page; ComponentLink4Description: 4_X-information; Dimensions WxLxH: 2.3 x 1.4 x 0.63; ComponentLink3Description: 3_X-information; ComponentLink1URL: https://www.ti.com/lit/ds/symlink/tps63810.pdf?HQS=dis-dk-null-digikeymode-dsf-pf-null-wwe&ts=1752211853290; Package: DSBGA-15; ComponentLink1Description: 1_Datasheet; ClassName: BIG; Manufacturer Part Number: TPS63811YFFR; Component Type: Power Supply
footprint TPS63811YFFR
pins: A1 EN, A2 VIN_1, A3 VIN_2, B1 VSEL, B2 LX1_1, B3 LX1_2, C1 AGND, C2 GND_1, C3 GND_2, D1 SCL, D2 LX2_1, D3 LX2_2, E1 SDA, E2 VOUT_1, E3 VOUT_2

## CMP-001-001491-1
designator L?, comment value 68 nH  Part Number: 0603DC-68NXJRW  Manufacturer: Coilcraft  (hidden comment: IND_0603_68nH_Coilcraft_DC)
IND High Q Ceramic Chip; System: RLC; Tolerance: 10%; Sort order: 346; Dimensions WxLxH: 1.7 x 0.99 x 0.89; ComponentLink3Description: 3_X-information; Creation date: 20250807; ComponentLink1Description: 1_Datasheet; Package: 0603; ComponentLink1URL: https://www.coilcraft.com/en-us/products/rf/ceramic-core-chip-inductors/0603-(1608)/0603dc/?skuId=30647; ComponentLink2Description: 2_Product page; Operating temperature range: -55℃ to 125℃; ComponentLink4Description: 4_X-information; ECCN: EAR99; RoHS: RoHS 3; Manufacturer Part Number: 0603DC-68NXJRW; Component Type: Inductor
footprint IND_0603_Coilcraft_0603DC (Chip Inductor, 1.6x0.8mm)
pins: 1, 2

## CMP-001-001496-1
designator R?, comment value 56k2  (hidden comment: RES_0201_56k2)
RES; Part Number: CRCW020156K2FNED; Manufacturer: Vishay Dale; Power Rating: 1/20W; Sort order: 322; HasBeenBuilt: TBD; Tolerance: 1%; Alternative component: Allowed; System: RLC; Package: 0201; ComponentLink1Description: 1_Datasheet; ComponentLink2Description: 2_Product page; ComponentLink3Description: 3_X-information; ComponentLink4Description: 4_X-information; Creation date: 20250813; ClassName: SMALL; Source: RLC_UN1Q.SchLib; Component Type: Resistor
footprint RES_0201_UN1Q (Chip Resistor, 0.6x0.3mm)
pins: 1, 2

## CMP-001-001497-1
designator L?, comment value 0.47uH  Manufacturer: Coilcraft  (hidden comment: IND_XFL4015_0u47)
IND, ultra-Low DCR shielded; Part Number: XFL4015-471MEC; System: Discrete; Sort order: 348; RoHS: RoHS 3; Dimensions WxLxH: 4.3 x 4.3 x 1.5 mm; Creation date: 20250815; ComponentLink4Description: 4_X-information; ECCN: EAR99; ComponentLink1Description: 1_Datasheet; Source: Discrete_UN1Q.SchLib; Operating temperature range: -55 ... +125 °C; ComponentLink3Description: 3_X-information; ComponentLink1URL: https://www.coilcraft.com/en-us/products/power/shielded-inductors/molded-inductor/xfl/xfl4015/?skuId=2389; ClassName: BIG; ComponentLink2Description: 2_Product page; Package: 4015; Manufacturer Part Number: XFL4015-471MEC; Component Type: Inductor
footprint IND_XFL4015_Coilcraft (Power inductor, shielded, SMT)
pins: 1, 2

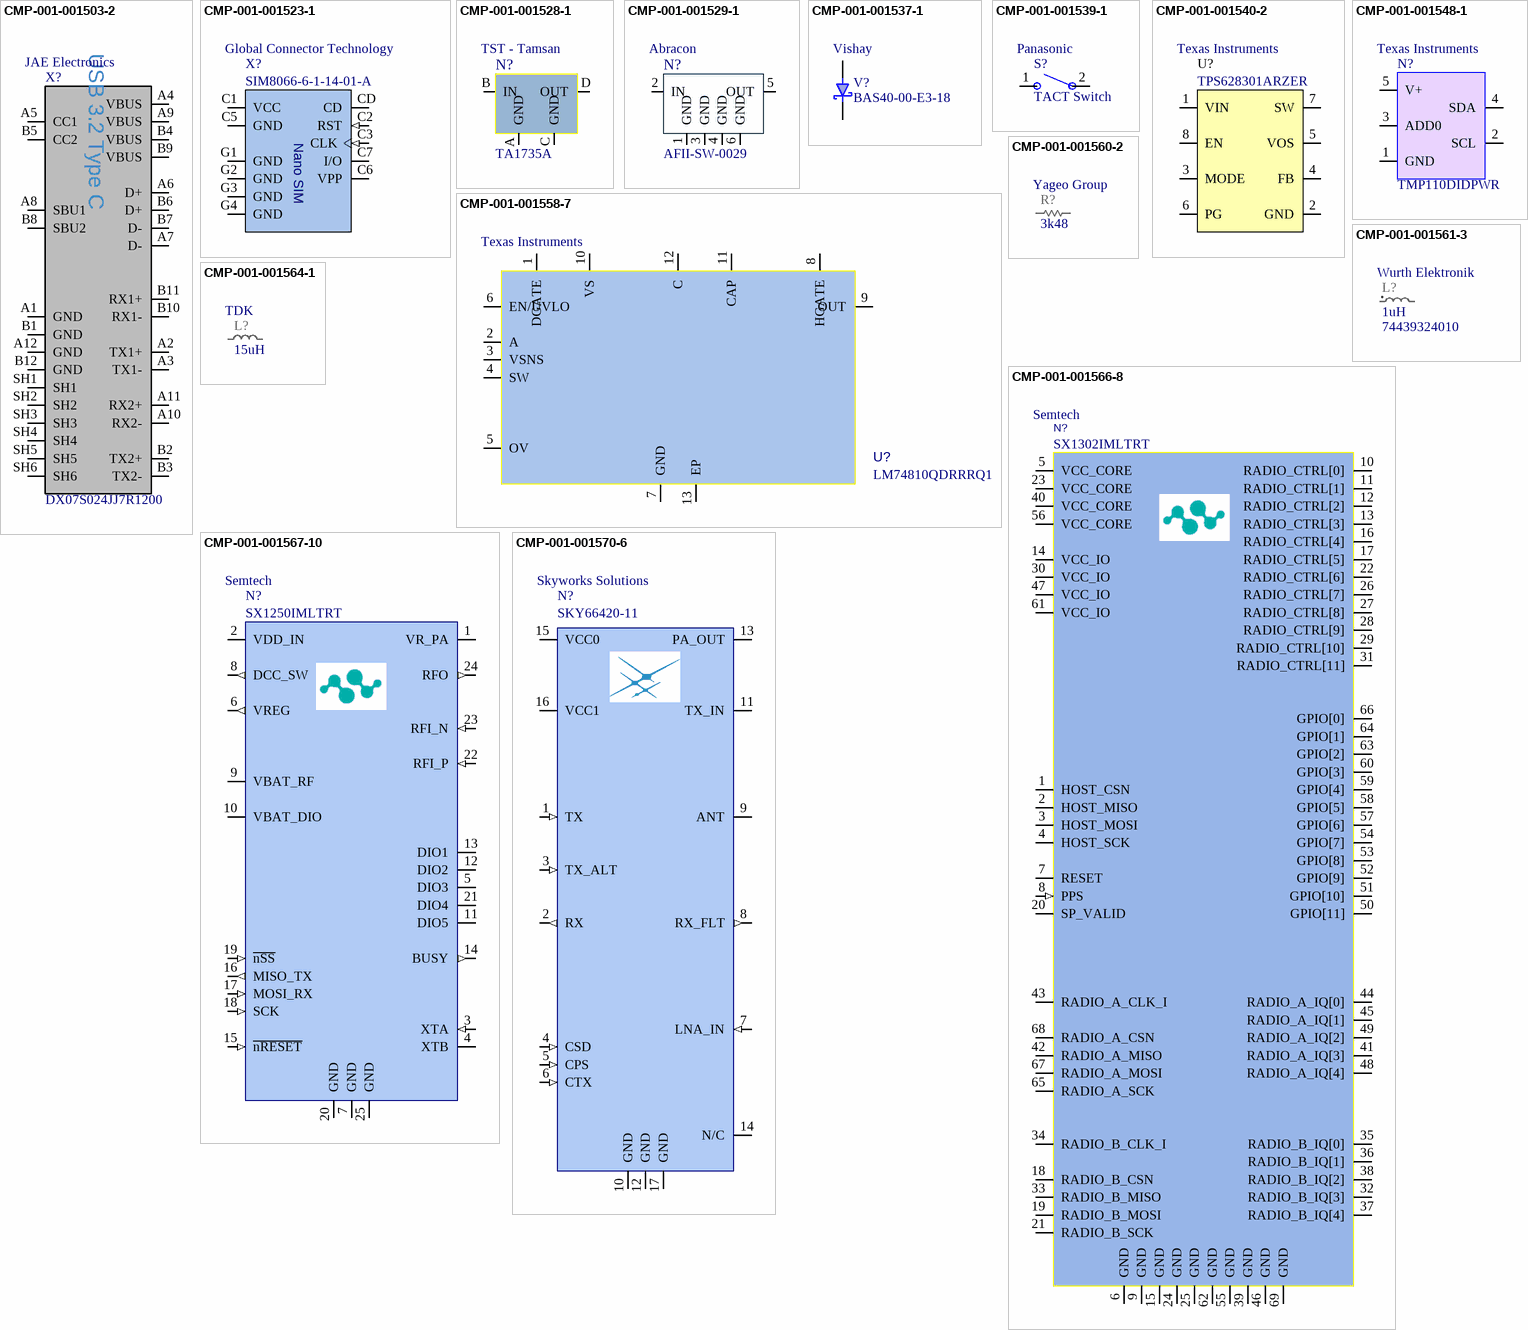
[diagram p9: symbols CMP-001-001503-2 to CMP-001-001570-6]

## CMP-001-001503-2
designator X?, comment Part Number: DX07S024JJ7R1200  Manufacturer: JAE Electronics  (hidden comment: USB_C_JAE_DX07S024JJ7R1200)
USB-C (USB TYPE-C) USB 3.2 Gen 2 (USB 3.1 Gen 2, Superspeed + (USB 3.1)) Receptacle Connector 24 Position Surface Mount, Right Angle; Through Hole; Manufacturer: JAE; Sort order: 101; Creation date: 20250825; ClassName: BIG; ComponentLink1URL: https://statics.teams.cdn.office.net/evergreen-assets/safelinks/2/atp-safelinks.html; ComponentLink3Description: 3_X-information; ComponentLink1Description: 1_Datasheet; ComponentLink4Description: 4_X-information; ComponentLink2Description: 2_Product page; Operating temperature range: -40C to +85C; System: Connector; Manufacturer Part Number: DX07S024JJ7R1200; Component Type: Interface Connector
footprint USB_C_JAE_DX07S024JJ7R1200 (USB-C (USB TYPE-C) USB 3.2 Gen 2 (USB 3.1 Gen 2, Superspeed + (USB 3.1)) Receptacle Connector 24 Position Surface Mount, Right Angle; Through Hole)
pins: A1 GND, A2 TX1+, A3 TX1-, A4 VBUS, A5 CC1, A6 D+, A7 D-, A8 SBU1, A9 VBUS, A10 RX2-, A11 RX2+, A12 GND, B1 GND, B2 TX2+, B3 TX2-, B4 VBUS, B5 CC2, B6 D+, B7 D-, B8 SBU2, B9 VBUS, B10 RX1-, B11 RX1+, B12 GND, SH1, SH2, SH3, SH4, SH5, SH6
text: USB 3.2 Type C

## CMP-001-001523-1
designator X?, comment SIM8066-6-1-14-01-A  Manufacturer: Global Connector Technology
Nano SIM, Push-Push, 6Pin, SMT, RA; Manufacturer: GCT; Sort order: 111; System: Connector; Part Number: SIM8066-6-1-14-01-A; ClassName: BIG; ComponentLink1Description: 1_Datasheet; ComponentLink1URL: https://gct.co/files/specs/sim8066-spec.pdf; ComponentLink2Description: 2_Product page; ComponentLink2URL: https://gct.co/connector/sim8066; ComponentLink3Description: 3_X-information; ComponentLink4Description: 4_X-information; Creation date: 20250901; Dimensions WxLxH: 12x18x2.1; Manufacturer Part Number: SIM8066-6-1-14-01-A; Component Type: Interface Connector
footprint SIM8066-6-1-14-01-A (Nano SIM, Push-Push, 6Pin, SMT, RA)
pins: C1 VCC (power), C2 RST (in), C3 CLK (in), C5 GND (power), C6 VPP (power), C7 I/O (io), CD (io), G1 GND (power), G2 GND (power), G3 GND (power), G4 GND (power)
text: Nano SIM

## CMP-001-001528-1
designator N?, comment Manufacturer: TST - Tamsan  (hidden comment: TA1735A)
867.5 MHz SAW Filter, IL 3.5 dB, 15 MHz BW; Manufacturer: TAI-SAW; Sort order: 701; System: RF; Part Number: TA1735A; Operating temperature range: -30 to +80 °C; Package: SM2016-4; Dimensions WxLxH: 1.6 x 2 x 0.90 mm; ComponentLink1Description: 1_Datasheet; ComponentLink1URL: https://www.taisaw.com/assets/PDF/TA1735A%20_Rev.1.0_.pdf; Creation date: 20250828; ECCN: EAR99; ComponentLink2Description: 2_Product page; ComponentLink3Description: 3_X-information; ComponentLink4Description: 4_X-information; RoHS: RoHS 3; Manufacturer Part Number: TA1735A; Component Type: RF Discrete
footprint TA1735A_SM2016-4 (SM2016-4, 1.6 x 2 4 pin)
pins: A GND, B IN "50 ohm terminal", C GND, D OUT "50 ohm terminal"

## CMP-001-001529-1
designator N?, comment Manufacturer: Abracon  (hidden comment: AFII-SW-0029)
902 - 928 MHz SAW Filter; Manufacturer: RFMi; Manufacturer Part Number: AFII-SW-0029-T; Sort order: 701; HasBeenBuilt: False; System: RF; Part Number: AFII-SW-0029; Operating temperature range: -45 ... +85C; Package: 3030; Dimensions WxLxH: 3 x 3 x 1.25mm; ComponentLink1Description: 1_Datasheet; ComponentLink1URL: https://abracon.com/datasheets/AFII-SW-0029.pdf; Creation date: 20250828; Design Item ID: AFII-SW-0029; ECCN: EAR99; ComponentLink3Description: 3_X-information; ComponentLink2Description: 2_Product page; ComponentLink4Description: 4_X-information; RoHS: RoHS 3; Component Type: RF Discrete
footprint SM3030_6PIN_H1_25 (3x3mm 6 pin, height 1.25mm)
pins: 1 GND, 2 IN "50 ohm terminal", 3 GND, 4 GND, 5 OUT "50 ohm terminal", 6 GND

## CMP-001-001537-1
designator V?, comment Manufacturer: Vishay  (hidden comment: BAS40-00-E3-18)
Diode rectifier 40V 0.2A; HasBeenBuilt: False; Sort order: 501; System: IC; ClassName: BIG; ComponentLink1URL: https://www.vishay.com/docs/86400/bas40-00tobas40-06.pdf; ComponentLink2Description: 2_Product page; ComponentLink3Description: 3_X-information; Package: SOT-23; RoHS: Compliant; Dimensions WxLxH: 2.5 x 3  x 1.1mm; ComponentLink4Description: 4_X-information; Part Number: BAS40-00-E3-18; Creation date: 20250828; ComponentLink1Description: 1_Datasheet; Manufacturer Part Number: BAS40-00-E3-18; Component Type: Diode
footprint SOT23_BAS40 (SOT-23, 3 pins, 2.5 x 2.9 x 1.1mm for BAS40)
pins: 1 A, 3 C

## CMP-001-001539-1
designator S?, comment TACT Switch  Manufacturer: Panasonic
Switch, Rocker, SPST, 10mA 5VDC, Vert, 5.7x1.9mm; Part Number: ESE-22MV21T; Sort order: 101; System: EMECH; ComponentLink1Description: 1_Datasheet; ComponentLink1URL: https://industrial.panasonic.com/cdbs/www-data/pdf/ATB0000/ATB0000C12.pdf; ComponentLink2Description: 2_Product page; ComponentLink3Description: 3_X-information; ComponentLink4Description: 4_X-information; Creation date: 20250829; Operating temperature range: -40C to +85C; Manufacturer Part Number: ESE-22MV21T; Component Type: Switch
footprint Panasonic_ESE-22MV21T
pins: 1, 2

## CMP-001-001540-2
designator U?, comment Manufacturer: Texas Instruments  (hidden comment: TPS628301ARZER)
Step-down converter, 2.25V-5.5Vin, Ioutmax 1A, Hiccup OCP; Manufacturer: TI; Sort order: 453; System: IC; Dimensions WxLxH: 1.1x2.1x0.8mm; Creation date: 20250829; Design Item ID: TPS628301ARZER; ComponentLink2Description: 2_Product page; Part Number: TPS628301ARZER; ComponentLink1Description: 1_Datasheet; ComponentLink3Description: 3_X-information; Package: WQFN-HR; Operating temperature range: -40...125°C; ComponentLink4Description: 4_X-information; ComponentLink1URL: https://www.ti.com/lit/ds/symlink/tps628301.pdf?ts=1704486672551&ref_url=https%253A%252F%252Fwww.ti.com%252Fsitesearch%252Fen-us%252Fdocs%252Funiversalsearch.tsp%253FlangPref%253Den-US%2526searchTerm%253DTPS628301ADRLR%2526nr%253D6; Manufacturer Part Number: TPS628301ARZER; Component Type: Power Supply
footprint TPS628301ARZER (WQFN-HR, 1.1x2.1x0.8mm)
pins: 1 VIN, 2 GND, 3 MODE, 4 FB, 5 VOS, 6 PG, 7 SW, 8 EN

## CMP-001-001548-1
designator N?, comment Manufacturer: Texas Instruments  (hidden comment: TMP110DIDPWR)
I2C temperature sensor, X2SON-5; Sort order: 445; System: IC; ComponentLink2Description: 2_Product page; ComponentLink3Description: 3_X-information; Part Number: TMP110DIDPWR; ComponentLink1URL: https://www.ti.com/lit/ds/symlink/tmp110.pdf; Creation date: 20250911; ComponentLink1Description: 1_Datasheet; ClassName: BIG; Package: X2SON-5; ComponentLink4Description: 4_X-information; Dimensions WxLxH: 0.8 × 0.8 × 0.4mm; Manufacturer Part Number: TMP110DIDPWR; Component Type: Sensor
footprint X2SON_DPW0005B (X2SON_DPW0005B, 0.8 × 0.8 × 0.4mm)
pins: 1 GND (power), 2 SCL, 3 ADD0, 4 SDA, 5 V+ (power)

## CMP-001-001558-7
designator U?, comment Part Number: LM74810QDRRRQ1  Manufacturer: Texas Instruments  (hidden comment: LM74810Q)
Ideal diode controller. Automotive load dump compatibility, Inrush current control, OVP, Reverse current blocking, Reverse polarity protection; System: IC; Sort order: 445; ComponentLink2URL: https://www.ti.com/product/LM7481-Q1?keyMatch=LM74810QDRRRQ1&tisearch=universal_search&usecase=OPN-ALT; ComponentLink1URL: https://www.ti.com/lit/ds/symlink/lm7481-q1.pdf?ts=1758879292779&ref_url=https%253A%252F%252Fwww.ti.com%252Fproduct%252FLM7481-Q1%253FkeyMatch%253DLM74810QDRRRQ1%2526tisearch%253Duniversal_search%2526usecase%253DOPN-ALT; Dimensions WxLxH: 3.0x3.0x0.8; Operating temperature range: –40°C to 125°C; ComponentLink4Description: 4_X-information; ComponentLink3Description: 3_X-information; ComponentLink2Description: 2_Product page; Creation date: 20250926; ClassName: BIG; ComponentLink1Description: 1_Datasheet; Package: WSON-12; Manufacturer Part Number: LM74810QDRRRQ1; Component Type: Power Supply
footprint LM74810Q (WSON12)
pins: 1 DGATE, 2 A, 3 VSNS, 4 SW, 5 OV, 6 EN/UVLO, 7 GND, 8 HGATE, 9 OUT, 10 VS, 11 CAP, 12 C, 13 EP

## CMP-001-001560-2
designator R?, comment value 3k48  Manufacturer: Yageo Group  (hidden comment: RES_0201_3k48)
RES; Part Number: RC0201FR-073K48L; Manufacturer: YAGEO; Tolerance: 1%; Power Rating: 1/20W; Sort order: 322; HasBeenBuilt: TBD; Alternative component: Allowed; System: RLC; Package: 0201; ComponentLink1Description: 1_Datasheet; ComponentLink2Description: 2_Product page; ComponentLink3Description: 3_X-information; ComponentLink4Description: 4_X-information; Creation date: 20250926; ClassName: SMALL; Manufacturer Part Number: RC0201FR-073K48L; Component Type: Resistor
footprint RES_0201_UN1Q (Chip Resistor, 0.6x0.3mm)
pins: 1, 2

## CMP-001-001561-3
designator L?, comment value 1uH  Part Number: 74439324010  Manufacturer: Wurth Elektronik  (hidden comment: IND_74439324010_1u)
IND, Low DCR, shielded.; Manufacturer: Wurth; Sort order: 348; System: RLC; Dimensions WxLxH: 4.3 x 4.3 x 3.0mm; ClassName: BIG; Creation date: 20251001; ComponentLink2Description: 2_Product_page; Operating temperature range: -40 ... +125 °C; ComponentLink2URL: https://www.we-online.com/en/components/products/WE-XHMI#74439324010; ComponentLink1URL: https://www.we-online.com/components/products/datasheet/74439324010.pdf; ComponentLink1Description: 1_Datasheet; Package: 4030; ComponentLink4Description: 4_X-information; ComponentLink3Description: 3_X-information; Manufacturer Part Number: 74439324010; Component Type: Inductor
footprint IND_74439324010_4030
pins: 1, 2